# EAGLE library part 1P6T (library pedals-switches)
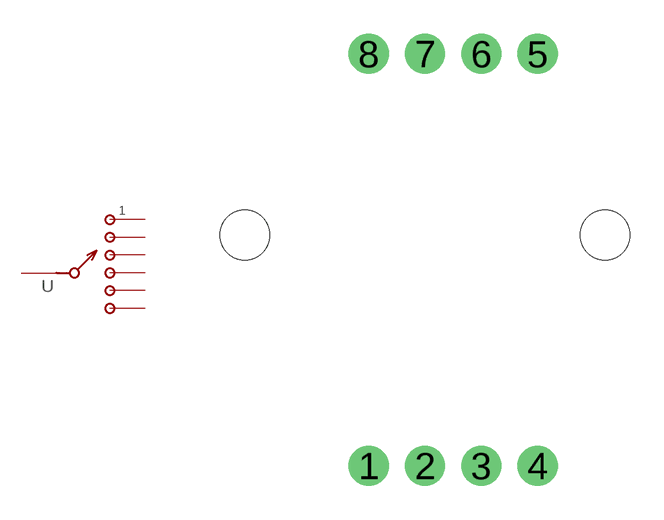
[diagram p9: symbol with the pads of 1P6T; footprint 1P6T]

Designator prefix -

## 1P6T  [1P6T]
1  2
2  3
3  4
4  5
5  6
6  7
7  A

## Footprint 1P6T (pad centres in mm)
drill 1 pad 1.778: 1 -2.5,-9.15; 2 0,-9.15; 3 2.5,-9.15; 4 5,-9.15; 5 5,9.15; 6 2.5,9.15; 7 0,9.15; 8 -2.5,9.15
hole 2.2 at 8,1.1
hole 2.2 at -8,1.1